# EAGLE library part 6SJ7 (library wheat)
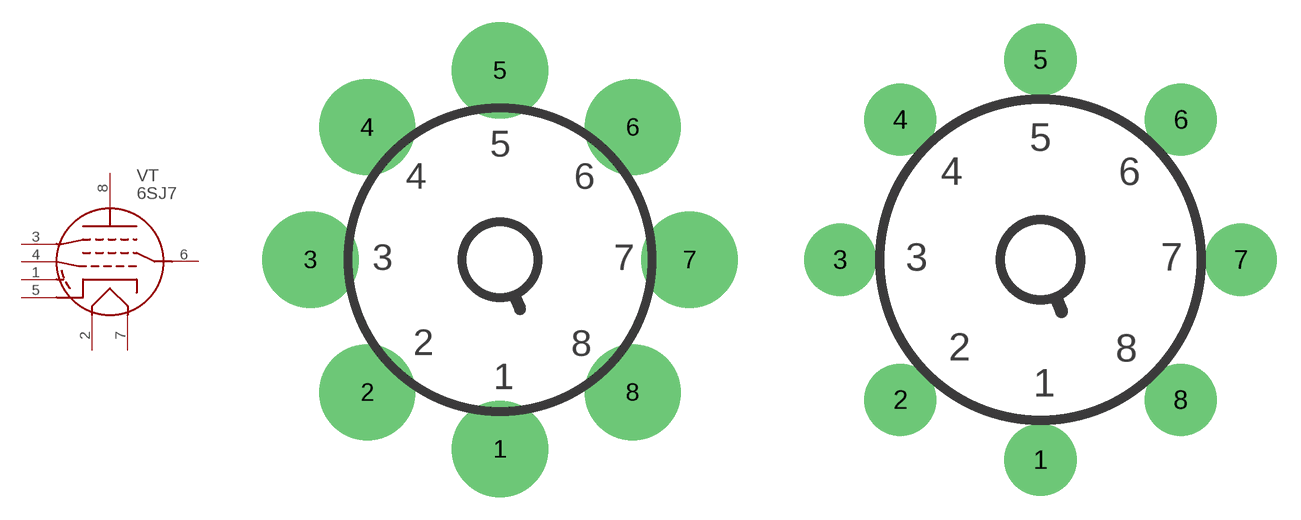
[diagram p233: symbol with the pads of OCTAL_BOTTOM; footprints OCTAL_BOTTOM, OCTAL_BOTTOM_SP]

Designator prefix VT

## 6SJ7  [OCTAL_BOTTOM]
1  S  pas
2  H1  pas
3  G3  pas
4  G1  pas
5  K1  pas
6  G2  pas
7  H2  pas
8  P  pas

## 6SJ7_SP  [OCTAL_BOTTOM_SP]
Pads as for OCTAL_BOTTOM

## Footprint OCTAL_BOTTOM (pad centres in mm)
TUBE SOCKET, OCTAL, PCB, BOTTOM SIDE
drill 2.54 pad 6.452: 1 0,-12.7; 2 -8.89,-8.89; 3 -12.7,0; 4 -8.89,8.89; 5 0,12.7; 6 8.89,8.89; 7 12.7,0; 8 8.89,-8.89

## Footprint OCTAL_BOTTOM_SP (pad centres in mm)
drill 2.54 pad 4.572: 1 0,-12.7; 2 -8.89,-8.89; 3 -12.7,0; 4 -8.89,8.89; 5 0,12.7; 6 8.89,8.89; 7 12.7,0; 8 8.89,-8.89